# EAGLE library part DRV8800 (library DRV8800)
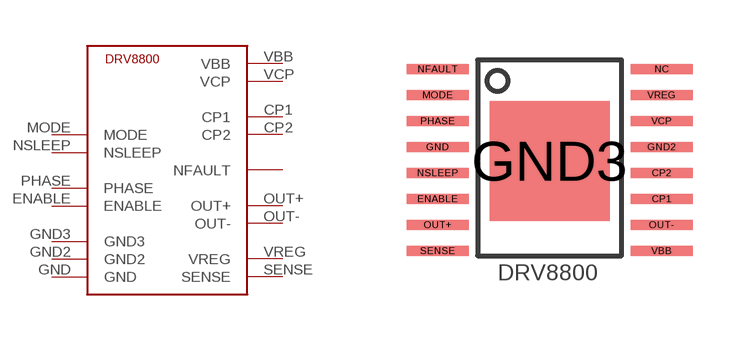
[diagram p0: symbol with the pads of DRV8800; footprint DRV8800]

Designator prefix -

## DRV8800  [DRV8800]
CP1  CP1
CP2  CP2
ENABLE  ENABLE
GND  GND
GND2  GND2
GND3  GND3
MODE  MODE
NFAULT  NFAULT
NSLEEP  NSLEEP
OUT+  OUT+
OUT-  OUT-
PHASE  PHASE
SENSE  SENSE
VBB  VBB
VCP  VCP
VREG  VREG

## Footprint DRV8800 (pad centres in mm)
smd 1.55 x 0.25: CP1 5.6,1.3; CP2 5.6,1.95; ENABLE 0,1.3; GND 0,2.6; GND2 5.6,2.6; MODE 0,3.9; NC 5.6,4.55; NFAULT 0,4.55; NSLEEP 0,1.95; OUT+ 0,0.65; OUT- 5.6,0.65; PHASE 0,3.25; SENSE 0,0; VBB 5.6,0; VCP 5.6,3.25; VREG 5.6,3.9
smd 3 x 3: GND3 2.8,2.25